# EAGLE library part TQFP100-ISP (library SmallRoomLabs)
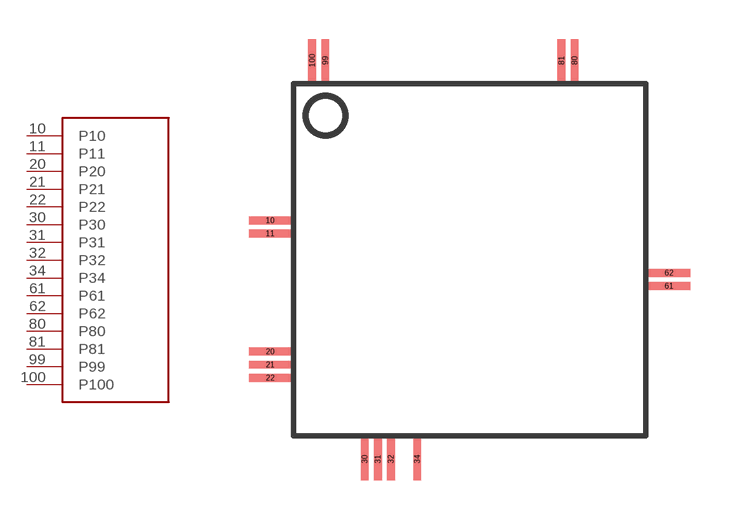
[diagram p13: symbol with the pads of TQFP100-ISP; footprint TQFP100-ISP]

Designator prefix -

## TQFP100-ISP  [TQFP100-ISP]
10  P10
11  P11
20  P20
21  P21
22  P22
30  P30
31  P31
32  P32
34  P34
61  P61
62  P62
80  P80
81  P81
99  P99
100  P100

## Footprint TQFP100-ISP (pad centres in mm)
smd 1.6 x 0.3: 10 -7.6,1.5; 11 -7.6,1; 20 -7.6,-3.5; 21 -7.6,-4; 22 -7.6,-4.5; 61 7.6,-1; 62 7.6,-0.5
smd 0.3 x 1.6: 30 -4,-7.6; 31 -3.5,-7.6; 32 -3,-7.6; 34 -2,-7.6; 80 4,7.6; 81 3.5,7.6; 99 -5.5,7.6; 100 -6,7.6